# EAGLE library part JOLLA_TOH (library jolla-toh)
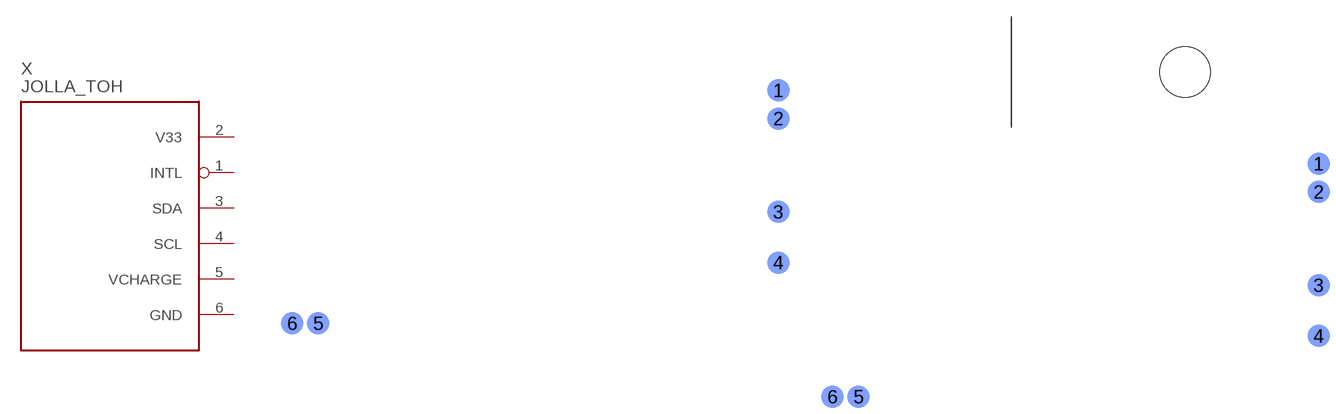
[diagram p0: symbol with the pads of JOLLA_TOH_POGOPADS; footprints JOLLA_TOH_POGOPADS, JOLLA_TOH_FLASHDRILL]

Designator prefix X

## JOLLA_TOHSS  [JOLLA_TOH_POGOPADS]
1  INTL
2  V33
3  SDA
4  SCL
5  VCHARGE
6  GND

## JOLLA_TOHFD  [JOLLA_TOH_FLASHDRILL]
Pads as for JOLLA_TOH_POGOPADS

## JOLLA_TOHNC  [JOLLA_TOH_NFC_NOCAM]
Pads as for JOLLA_TOH_POGOPADS

## JOLLA_TOHNONFC  [JOLLA_TOH_SIMPLE]
Pads as for JOLLA_TOH_POGOPADS

## Footprint JOLLA_TOH_POGOPADS (pad centres in mm)
NFC, Silkscreen camera/Flash
smd 2 x 2 bottom: 1 43.2,20.7; 2 43.2,18.2; 3 43.2,9.9; 4 43.2,5.4; 5 2.3,0; 6 0,0

## Footprint JOLLA_TOH_FLASHDRILL (pad centres in mm)
smd 2 x 2 bottom: 1 43.2,20.7; 2 43.2,18.2; 3 43.2,9.9; 4 43.2,5.4; 5 2.3,0; 6 0,0
hole 4.5 at 31.33,28.85

## Footprint JOLLA_TOH_NFC_NOCAM (pad centres in mm)
smd 2 x 2 bottom: 1 43.2,20.7; 2 43.2,18.2; 3 43.2,9.9; 4 43.2,5.4; 5 2.3,0; 6 0,0

## Footprint JOLLA_TOH_SIMPLE (pad centres in mm)
smd 2 x 2 bottom: 1 43.2,20.7; 2 43.2,18.2; 3 43.2,9.9; 4 43.2,5.4; 5 2.3,0; 6 0,0